# Altium schematic symbol library Schlib1.SchLib: 2 symbols
Pins are listed as number, name and electrical type; pins without a type are passive.

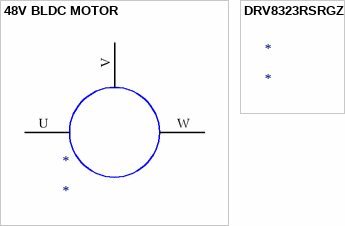
[diagram p0: symbols 48V BLDC MOTOR to DRV8323RSRGZR]

## 48V BLDC MOTOR
designator *
pins: U 25, V U, W 26

## DRV8323RSRGZR
designator *
Brushless DC Motor Controller, 0.005A, PQCC48; Manufacturer: Texas Instruments; Manufacturer Part Number: DRV8323RSRGZR; Supplier: Digi-Key; Supplier Part Number: 296-47769-6-ND; RoHS: Yes; Category: Motor Drivers; Stock: 10543; Pricing: 1=5.19, 10=4.659, 25=4.404, 100=3.8169, 250=3.62116, 500=3.24926, 1000=2.74033 (USD); Terminal Finish: Nickel; JESD-609 Code: e4; Throw Configuration: BRUSHLESS DC MOTOR CONTROLLER; Moisture Sensitivity Level: 2; Reach SVHC Compliant: Yes; RoHS Compliant: Yes; ComponentLink1URL: https://www.ti.com:443/lit/ds/symlink/drv8320.pdf?src-supplier=IHS+Markit; ComponentLink1Description: https://www.ti.com:443/lit/ds/symlink/drv8320.pdf?src-supplier=IHS+Markit; ComponentLink2URL: http://www.ti.com/lit/ds/symlink/drv8323r.pdf?src-supplier=Digi-Key; ComponentLink2Description: http://www.ti.com/lit/ds/symlink/drv8323r.pdf?src-supplier=Digi-Key